# Altium schematic symbol library EL-sense_Transistor_Optocouplers.SchLib: 8 symbols
Pins are listed as number, name and electrical type; pins without a type are passive.

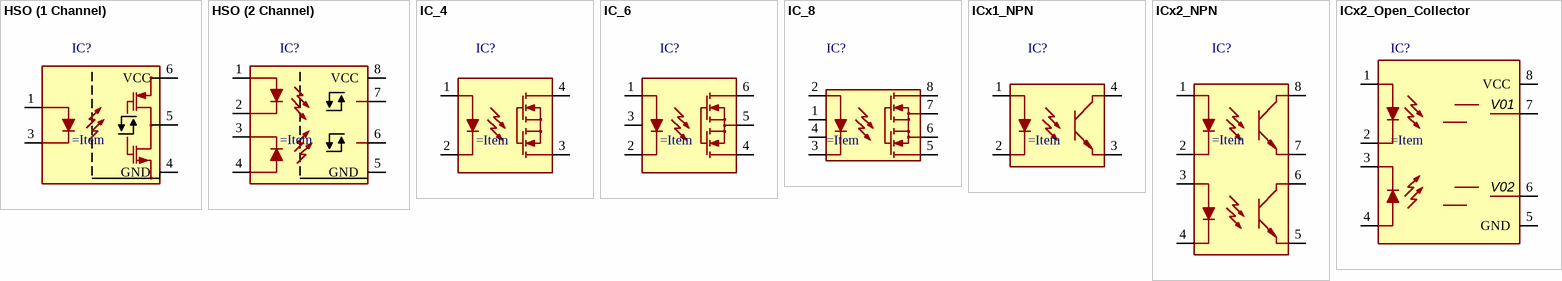
[diagram p0: symbols HSO (1 Channel) to ICx2_Open_Collector]

## HSO (1 Channel)
designator IC?
pins: 1, 3, 4 GND, 5, 6 VCC

## HSO (2 Channel)
designator IC?
pins: 1, 2, 3, 4, 5 GND, 6, 7, 8 VCC

## IC_4
designator IC?
pins: 1, 2, 3, 4

## IC_6
designator IC?
pins: 1, 2, 3, 4, 5, 6

## IC_8
designator IC?
pins: 1, 2, 3, 4, 5, 6, 7, 8

## ICx1_NPN
designator IC?
pins: 1, 2, 3, 4

## ICx2_NPN
designator IC?
pins: 1, 2, 3, 4, 5, 6, 7, 8

## ICx2_Open_Collector
designator IC?
pins: 1, 2, 3, 4, 5 GND, 6, 7, 8 VCC
text: V01; V02